# Altium integrated library Motorola Interface Terminator.IntLib: 6 symbols
Pins are listed as number, name and electrical type; pins without a type are passive.

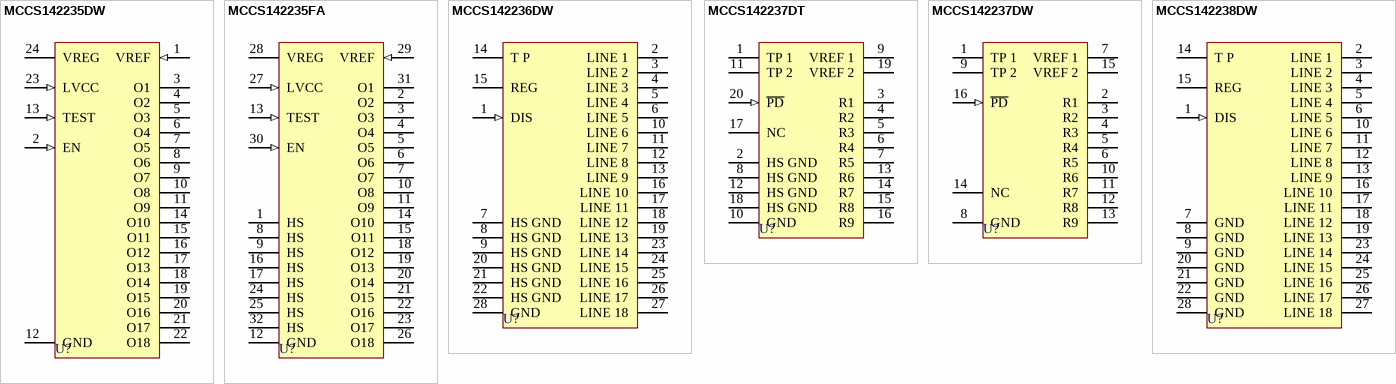
[diagram p0: symbols MCCS142235DW to MCCS142238DW]

## MCCS142235DW
designator U?
18-Bit Switchable Active SCSI Bus Terminator; Published: 17-Jul-2002; LatestRevisionDate: 13-Apr-2006; LatestRevisionNote: IPC-7351 Footprint Added.; DatasheetVersion: Aug-2001; PackageReference: 751E-04; Publisher: Altium Limited; PackageDescription: 24-Pin Small Outline Integrated Circuit 1.27 mm Pitch; Code_IPC: SOIC127P1047-24; ComponentLink1Description: Manufacturer Link; ComponentLink1URL: http://www.onsemi.com/site/products/parametrics/0,4446,178,00.html
footprint 751E-04_N (SOIC, 24-Leads, Body 15.4x7.5mm, Pitch 1.27mm, IPC Medium Density)
footprint 751E-04_L (SOIC, 24-Leads, Body 15.4x7.5mm, Pitch 1.27mm, IPC High Density)
footprint 751E-04_M (SOIC, 24-Leads, Body 15.4x7.5mm, Pitch 1.27mm, IPC Low Density)
3D model 751E-04 (24-Pin Small Outline Integrated Circuit 1.27 mm Pitch)
pins: 1 VREF (in), 2 EN (in), 3 O1 (hiz), 4 O2 (hiz), 5 O3 (hiz), 6 O4 (hiz), 7 O5 (hiz), 8 O6 (hiz), 9 O7 (hiz), 10 O8 (hiz), 11 O9 (hiz), 12 GND (power), 13 TEST (in), 14 O10 (hiz), 15 O11 (hiz), 16 O12 (hiz), 17 O13 (hiz), 18 O14 (hiz), 19 O15 (hiz), 20 O16 (hiz), 21 O17 (hiz), 22 O18 (hiz), 23 LVCC (in), 24 VREG (power)

## MCCS142235FA
designator U?
18-Bit Switchable Active SCSI Bus Terminator; Published: 17-Jul-2002; LatestRevisionDate: 13-Apr-2006; LatestRevisionNote: IPC-7351 Footprint Added.; DatasheetVersion: Aug-2001; PackageVersion: Aug-2001; PackageReference: 873A-02; Publisher: Altium Limited; PackageDescription: 32-Pin Thin Quad Flat Pack 0.8 mm Pitch; ComponentLink1Description: Manufacturer Link; ComponentLink1URL: http://www.onsemi.com/site/products/parametrics/0,4446,178,00.html
footprint 873A-02_N (Thin QFP, 32-Leads, Body 7x7mm, Pitch 0.8mm, IPC Medium Density)
footprint 873A-02_L (Thin QFP, 32-Leads, Body 7x7mm, Pitch 0.8mm, IPC High Density)
footprint 873A-02_M (Thin QFP, 32-Leads, Body 7x7mm, Pitch 0.8mm, IPC Low Density)
3D model MCCS142235-873A-02 (32-Pin Thin Quad Flat Pack 0.8 mm Pitch)
pins: 1 HS, 2 O2 (hiz), 3 O3 (hiz), 4 O4 (hiz), 5 O5 (hiz), 6 O6 (hiz), 7 O7 (hiz), 8 HS, 9 HS, 10 O8 (hiz), 11 O9 (hiz), 12 GND (power), 13 TEST (in), 14 O10 (hiz), 15 O11 (hiz), 16 HS, 17 HS, 18 O12 (hiz), 19 O13 (hiz), 20 O14 (hiz), 21 O15 (hiz), 22 O16 (hiz), 23 O17 (hiz), 24 HS, 25 HS, 26 O18 (hiz), 27 LVCC (in), 28 VREG (power), 29 VREF (in), 30 EN (in), 31 O1 (hiz), 32 HS

## MCCS142236DW
designator U?
18-Bit Switchable Active SCSI-2 Bus Terminator; Published: 17-Jul-2002; LatestRevisionDate: 13-Apr-2006; LatestRevisionNote: IPC-7351 Footprint Added.; DatasheetVersion: 1997; PackageVersion: May-1997; PackageReference: 751F-04; Publisher: Altium Limited; PackageDescription: 28-Pin Small Outline Integrated Circuit 1.27 mm Pitch; ComponentLink1Description: Manufacturer Link; ComponentLink1URL: http://www.onsemi.com/site/products/parametrics/0,4446,178,00.html; ComponentLink2Description: Datasheet; ComponentLink2URL: http://www.onsemi.com/pub/Collateral/MCCS142236-D.PDF
footprint 751F-04_N (SOIC, 28-Leads, Body 17.9x7.5mm, Pitch 1.27mm, IPC Medium Density)
footprint 751F-04_L (SOIC, 28-Leads, Body 17.9x7.5mm, Pitch 1.27mm, IPC High Density)
footprint 751F-04_M (SOIC, 28-Leads, Body 17.9x7.5mm, Pitch 1.27mm, IPC Low Density)
3D model 751F-04 (28-Pin Small Outline Integrated Circuit 1.27 mm Pitch)
pins: 1 DIS (in), 2 LINE 1 (hiz), 3 LINE 2 (hiz), 4 LINE 3 (hiz), 5 LINE 4 (hiz), 6 LINE 5 (hiz), 7 HS GND (power), 8 HS GND (power), 9 HS GND (power), 10 LINE 6 (hiz), 11 LINE 7 (hiz), 12 LINE 8 (hiz), 13 LINE 9 (hiz), 14 T P (power), 15 REG (power), 16 LINE 10 (hiz), 17 LINE 11 (hiz), 18 LINE 12 (hiz), 19 LINE 13 (hiz), 20 HS GND (power), 21 HS GND (power), 22 HS GND (power), 23 LINE 14 (hiz), 24 LINE 15 (hiz), 25 LINE 16 (hiz), 26 LINE 17 (hiz), 27 LINE 18 (hiz), 28 GND (power)

## MCCS142237DT
designator U?
9-Bit Switchable Active SCSI-2 Bus Terminator; Published: 17-Jul-2002; LatestRevisionDate: 06-Jun-2005; LatestRevisionNote: Stylized 3D Model Added.; DatasheetVersion: 1997; PackageVersion: 1997; PackageReference: 948D-03; Publisher: Altium Limited; PackageDescription: Shrink Small Outline; 20 Leads; Body Width 4.4 mm; Pitch 0.65 mm; ComponentLink1Description: Manufacturer Link; ComponentLink1URL: http://www.onsemi.com/site/products/parametrics/0,4446,178,00.html
footprint 948D-03 (Shrink Small Outline; 20 Leads; Body Width 4.4 mm; Pitch 0.65 mm)
3D model 948D-03 (Shrink Small Outline; 20 Leads; Body Width 4.4 mm; Pitch 0.65 mm)
pins: 1 TP 1 (power), 2 HS GND (power), 3 R1 (hiz), 4 R2 (hiz), 5 R3 (hiz), 6 R4 (hiz), 7 R5 (hiz), 8 HS GND (power), 9 VREF 1 (power), 10 GND (power), 11 TP 2 (power), 12 HS GND (power), 13 R6 (hiz), 14 R7 (hiz), 15 R8 (hiz), 16 R9 (hiz), 17 NC, 18 HS GND (power), 19 VREF 2 (power), 20 ~{PD} (in)

## MCCS142237DW
designator U?
9-Bit Switchable Active SCSI-2 Bus Terminator; Published: 17-Jul-2002; LatestRevisionDate: 13-Apr-2006; LatestRevisionNote: IPC-7351 Footprint Added.; DatasheetVersion: 1997; PackageVersion: 1996; PackageReference: 751G-02; Publisher: Altium Limited; PackageDescription: 16-Pin Small Outline Integrated Circuit 1.27 mm Pitch; ComponentLink1Description: Manufacturer Link; ComponentLink1URL: http://www.onsemi.com/site/products/parametrics/0,4446,178,00.html
footprint 751G-02_N (SOIC, 16-Leads, Body 10.3x7.5mm, Pitch 1.27mm, IPC Medium Density)
footprint 751G-02_L (SOIC, 16-Leads, Body 10.3x7.5mm, Pitch 1.27mm, IPC High Density)
footprint 751G-02_M (SOIC, 16-Leads, Body 10.3x7.5mm, Pitch 1.27mm, IPC Low Density)
3D model 751G-02 (16-Pin Small Outline Integrated Circuit 1.27 mm Pitch)
pins: 1 TP 1 (power), 2 R1 (hiz), 3 R2 (hiz), 4 R3 (hiz), 5 R4 (hiz), 6 R5 (hiz), 7 VREF 1 (power), 8 GND (power), 9 TP 2 (power), 10 R6 (hiz), 11 R7 (hiz), 12 R8 (hiz), 13 R9 (hiz), 14 NC, 15 VREF 2 (power), 16 ~{PD} (in)

## MCCS142238DW
designator U?
18-Bit Switchable Active SCSI-2 Bus Terminator; Published: 17-Jul-2002; LatestRevisionDate: 13-Apr-2006; LatestRevisionNote: IPC-7351 Footprint Added.; DatasheetVersion: 1997; PackageVersion: May-1997; PackageReference: 751F-04; Publisher: Altium Limited; PackageDescription: 28-Pin Small Outline Integrated Circuit 1.27 mm Pitch; ComponentLink1Description: Manufacturer Link; ComponentLink1URL: http://www.onsemi.com/site/products/parametrics/0,4446,178,00.html
footprint 751F-04_N (SOIC, 28-Leads, Body 17.9x7.5mm, Pitch 1.27mm, IPC Medium Density)
footprint 751F-04_L (SOIC, 28-Leads, Body 17.9x7.5mm, Pitch 1.27mm, IPC High Density)
footprint 751F-04_M (SOIC, 28-Leads, Body 17.9x7.5mm, Pitch 1.27mm, IPC Low Density)
3D model 751F-04 (28-Pin Small Outline Integrated Circuit 1.27 mm Pitch)
pins: 1 DIS (in), 2 LINE 1 (hiz), 3 LINE 2 (hiz), 4 LINE 3 (hiz), 5 LINE 4 (hiz), 6 LINE 5 (hiz), 7 GND (power), 8 GND (power), 9 GND (power), 10 LINE 6 (hiz), 11 LINE 7 (hiz), 12 LINE 8 (hiz), 13 LINE 9 (hiz), 14 T P (power), 15 REG (power), 16 LINE 10 (hiz), 17 LINE 11 (hiz), 18 LINE 12 (hiz), 19 LINE 13 (hiz), 20 GND (power), 21 GND (power), 22 GND (power), 23 LINE 14 (hiz), 24 LINE 15 (hiz), 25 LINE 16 (hiz), 26 LINE 17 (hiz), 27 LINE 18 (hiz), 28 GND (power)